# Altium schematic symbol library Conn_Molex_67643-0910_eec.SchLib: 1 symbol
Pins are listed as number, name and electrical type; pins without a type are passive.

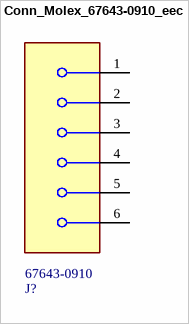
[diagram p0: symbol Conn_Molex_67643-0910_eec]

## Conn_Molex_67643-0910_eec
designator J?  Part Number: 67643-0910
CONN USB RT ANG RECPT TYPE A BLK; Manufacturer: Molex; Voltage: 30V; Category Bda670Ac885E6661: Uncategorized; Current Rating: 1.5A; Is Female: yes; Category 75Fab8F04590Ae3D: Connectors and Adapters; Category 3E6Ef3640B2Fe5A9: Card Edge; Num Pins: 6; Category 0836C53C3D42D3F1: Connectors; helpURL: https://upverter.com/upn/revision/721fba622bb3eca2/; ComponentLink2Description: Datasheet; Temperature: -40°C to +85°C; Package: CONN_PTH_USB; Supplier 2: Mouser; Supplier 1: Digi-Key; ComponentLink1URL: https://upverter.com/upn/revision/721fba622bb3eca2/; Supplier Part Number 2: 538-67643-0910; Supplier Part Number 1: WM4993-ND; ComponentLink1Description: Upverter; ComponentLink2URL: http://www.molex.com/webdocs/datasheets/pdf/en-us//0676430910_IO_CONNECTORS.pdf; RoHS: TRUE; Mouser Part Number: 538-67643-0910; Temperature Range High: +85°C; Digikey Description: CONN USB RT ANG RECPT TYPE A BLK; Digikey Part Number: WM4993-ND; Category A3C16Ecb93907806: Uncategorized; Type: connector; Lead Free: yes; Temperature Range Low: -40°C; Mounting Type: through hole; Octopart Part Number: 618ba8858f99be4c
footprint Molex_67643-0910_0
pins: 1, 2, 3, 4, 5 MNT 1, 6 MNT 2